# EAGLE library part S300 (library _CO2Sensor)
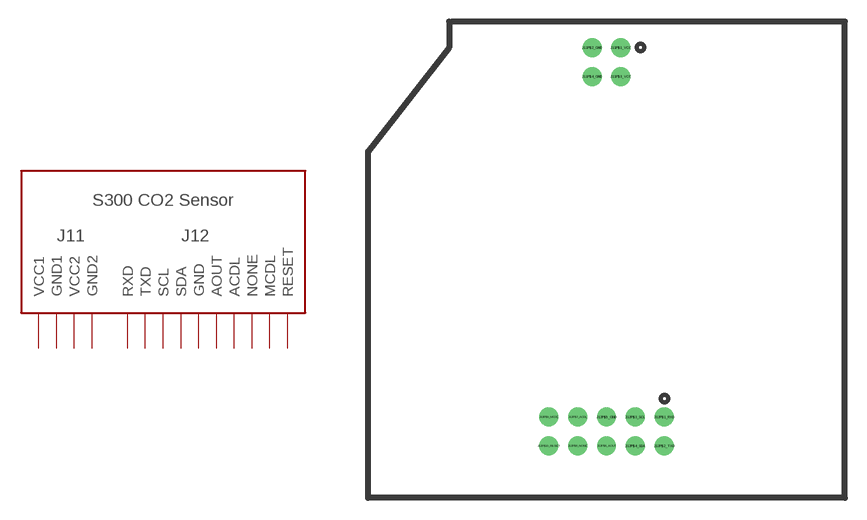
[diagram p1: symbol with the pads of S300REV; footprint S300REV]

Designator prefix -

## S300  [S300REV]
J11P$1_VCC  VCC1
J11P$2_GND  GND1
J11P$3_VCC  VCC2
J11P$4_GND  GND2
J12P$1_RXD  RXD
J12P$2_TXD  TXD
J12P$3_SCL  SCL
J12P$4_SDA  SDA
J12P$5_GND  GND
J12P$6_AOUT  AOUT
J12P$7_ACDL  ACDL
J12P$8_NONE  NONE
J12P$9_MCDL  MCDL
J12P$10_RESET  RESET

## Footprint S300REV (pad centres in mm)
drill 0.8: J11P$1_VCC 17.5,31.2; J11P$2_GND 15.5,31.2; J11P$3_VCC 17.5,29.2; J11P$4_GND 15.5,29.2; J12P$1_RXD 20.5,5.6; J12P$2_TXD 20.5,3.6; J12P$3_SCL 18.5,5.6; J12P$4_SDA 18.5,3.6; J12P$5_GND 16.5,5.6; J12P$6_AOUT 16.5,3.6; J12P$7_ACDL 14.5,5.6; J12P$8_NONE 14.5,3.6; J12P$9_MCDL 12.5,5.6; J12P$10_RESET 12.5,3.6